# Altium integrated library AD Video Colour Encoder Circuit.IntLib: 1 symbol
Pins are listed as number, name and electrical type; pins without a type are passive.

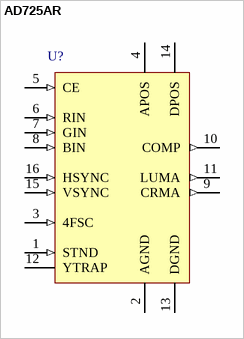
[diagram p0: symbol AD725AR]

## AD725AR
designator U?
Low Cost RGB to NTSC/PAL Encoder with Luma Trap Port; Published: 6-Jun-2005; LatestRevisionDate: 13-Apr-2006; LatestRevisionNote: IPC-7351 Footprint Added.; DatasheetVersion: Rev. 0, Oct-1997; PackageVersion: 2005; PackageReference: RW-16; Publisher: Altium Limited; PackageDescription: 16-Pin Wide Body Small Outline Integrated Circuit 1.27 mm Pitch; Code_JEDEC: MS-013-AA; Code_IPC: SOIC127P1030-16; ComponentLink1Description: Manufacturer Link; ComponentLink1URL: Device Home Page|http://www.analog.com/en/prod/0%2C2877%2CAD725%2C00.html; ComponentLink2Description: Datasheet; ComponentLink2URL: http://www.analog.com/UploadedFiles/Data_Sheets/774020909AD725_0.pdf
footprint RW-16_N (SOIC, 16-Leads, Body 10.3x7.5mm, Pitch 1.27mm, IPC Medium Density)
footprint RW-16_L (SOIC, 16-Leads, Body 10.3x7.5mm, Pitch 1.27mm, IPC High Density)
footprint RW-16_M (SOIC, 16-Leads, Body 10.3x7.5mm, Pitch 1.27mm, IPC Low Density)
3D model RW-16 (16-Pin Wide Body Small Outline Integrated Circuit 1.27 mm Pitch)
pins: 1 STND (in) "Encoding Standard Pin (NTSC - PAL)", 2 AGND (power) "Analog Ground Connection", 3 4FSC (in) "4FSC Clock Input", 4 APOS (power) "Analog Positive Supply", 5 CE (in) "Chip Enable", 6 RIN (in) "Red Component Video Input", 7 GIN (in) "Green Component Video Input", 8 BIN (in) "Blue Component Video Input", 9 CRMA (out) "Chrominance Output", 10 COMP (out) "Composite Video Output", 11 LUMA (out) "Luminance plus CSYNC Output", 12 YTRAP "Luminance Trap Filter Tap", 13 DGND (power) "Digital Ground Connection", 14 DPOS (power) "Digital Positive Supply", 15 VSYNC (in) "Vertical Sync Signal", 16 HSYNC (in) "Horizontal Sync Signal"